# Altium footprint library PCB - MICROPHONE - VESPER TECH VM1010.PcbLib: 1 footprints
Each footprint in its own frame and in the unit in brackets; x right, y up, seen from the top. Pads: shape width x height; smd on the part's side, far side on the other; paste and mask are expansions set on the pad; w line width, h text height; cw(c..) or ccw(c..) is an arc to the next point about the centre after c.
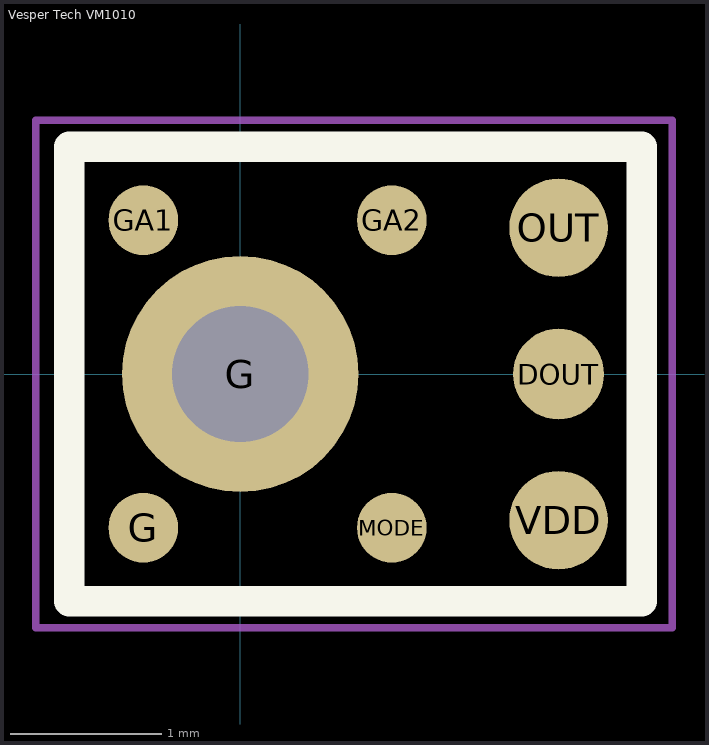
[diagram p0: the footprint, top view; thin cyan lines are the x and y axes]

## Vesper Tech VM1010 [mm] "MIC PIEZO MEMS ANALOG OMNI 3.76mm x 2.95mm"
height 1.4
pads (8):
  round 0.6 smd: DOUT(2.1,0)
  round 0.46 smd: G(-0.64,-1.015) GA1(-0.64,1.015) GA2(1,1.015) MODE(1,-1.015)
  round 1.56 hole 0.9 unplated paste+0 mask+0: G(0,0)
  round 0.65 smd: OUT(2.1,0.965) VDD(2.1,-0.965)
Top Overlay:
  lines w0.2: -1.13,-1.5 -1.13,1.5 2.65,1.5 2.65,-1.5 -1.13,-1.5
Top Paste:
  lines w0.25: -0.633,-0.17 ccw(c0,0) -0.17,-0.633 ; -0.633,0.17 cw(c0,0) -0.17,0.633 ; 0.17,-0.633 ccw(c0,0) 0.633,-0.17 ; 0.17,0.633 cw(c0,0) 0.633,0.17
Top Solder:
  circle w0.25: c0,0 r0.655
Mechanical 13:
  lines w0.1: -1.13,-1.475 -1.13,1.475 2.63,1.475 2.63,-1.475 -1.13,-1.475
Mechanical 15:
  lines w0.05: -1.35,-1.675 -1.35,1.675 2.85,1.675 2.85,-1.675 -1.35,-1.675 ; -0.5,0 0.5,0 -0.5,0 ; 0,-0.5 0,0.5 0,-0.5
3D body "Vesper Tech - VM1010.step": height 1.4, standoff 0, extent -1.13,-1.475 2.63,1.475